# EAGLE library part XM-L (library rc)
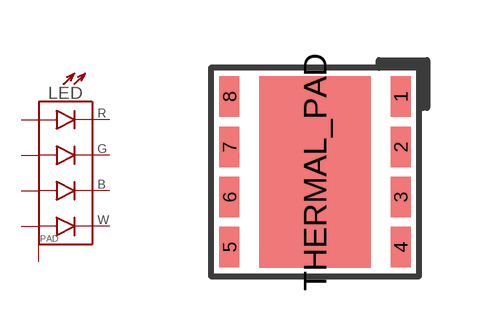
[diagram p1: symbol with the pads of XM-L; footprint XM-L]

Designator prefix LED

## XM-L (MANF: CREE; MANF#: XML RGBW)  [XM-L]
1  RA
2  GA
3  BA
4  WA
5  WC
6  BC
7  GC
8  RC
THERMAL_PAD  P$1

## Footprint XM-L (pad centres in mm)
Drawing <https://assets.cree-led.com/a/ds/x/XLamp-XMLDCL.pdf> 3D model <https://grabcad.com/library/xm-l-color-1>
smd 0.5 x 1.01: 1 2.14,1.885; 2 2.14,0.625; 3 2.14,-0.625; 4 2.14,-1.875; 5 -2.14,-1.875; 6 -2.14,-0.625; 7 -2.14,0.625; 8 -2.14,1.885
smd 2.78 x 4.78: THERMAL_PAD 0,0